# Altium footprint library THS4509.PcbLib: 2 footprints
Each footprint in its own frame and in the unit in brackets; x right, y up, seen from the top. Pads: shape width x height; smd on the part's side, far side on the other; paste and mask are expansions set on the pad; w line width, h text height; cw(c..) or ccw(c..) is an arc to the next point about the centre after c.
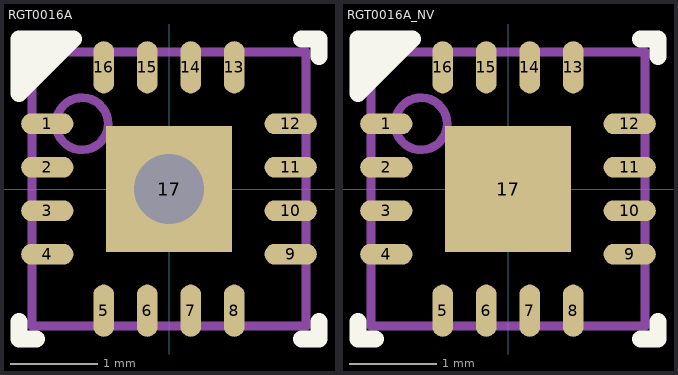
[diagram p0: the footprints below, top view; thin cyan lines are the x and y axes]

## RGT0016A [mm]
pads (17):
  oval 0.6x0.24 smd paste-0.102 mask+0.051: 1(-1.4,0.75) 2(-1.4,0.25) 3(-1.4,-0.25) 4(-1.4,-0.75) 9(1.4,-0.75) 10(1.4,-0.25) 11(1.4,0.25) 12(1.4,0.75)
  oval 0.24x0.6 smd paste-0.102 mask+0.051: 5(-0.75,-1.4) 6(-0.25,-1.4) 7(0.25,-1.4) 8(0.75,-1.4) 13(0.75,1.4) 14(0.25,1.4) 15(-0.25,1.4) 16(-0.75,1.4)
  rect 1.45x1.45 smd paste-0.712 mask+0.051: 17(0,0)
via 0,0 diameter 1.2 hole 0.8
Top Overlay:
  region: -1.1,1.725 -1.725,1.725 -1.725,1.1
  lines w0.2: -1.725,-1.525 -1.725,-1.725 -1.525,-1.725 ; 1.525,-1.725 1.725,-1.725 1.725,-1.525 ; 1.525,1.725 1.725,1.725 1.725,1.525 ; -1.1,1.725 -1.725,1.725 -1.725,1.1 -1.1,1.725 ; -1.1,1.725 -1.1,1.725
Top Paste:
  region: -0.668,0.669 -0.668,-0.669 0.669,-0.669 0.669,0.669
Mechanical 13:
  circle w0.1: c-1,0.75 r0.3
  lines w0.1: -1.575,-1.575 1.575,-1.575 1.575,1.575 -1.575,1.575 -1.575,-1.575
3D body "RGT0016A.stp": height 1, standoff 0, extent -1.5,-1.5 1.5,1.5

## RGT0016A_NV [mm]
pads (17):
  oval 0.6x0.24 smd paste-0.102 mask+0.051: 1(-1.4,0.75) 2(-1.4,0.25) 3(-1.4,-0.25) 4(-1.4,-0.75) 9(1.4,-0.75) 10(1.4,-0.25) 11(1.4,0.25) 12(1.4,0.75)
  oval 0.24x0.6 smd paste-0.102 mask+0.051: 5(-0.75,-1.4) 6(-0.25,-1.4) 7(0.25,-1.4) 8(0.75,-1.4) 13(0.75,1.4) 14(0.25,1.4) 15(-0.25,1.4) 16(-0.75,1.4)
  rect 1.45x1.45 smd paste-0.712 mask+0.051: 17(0,0)
Top Overlay:
  region: -1.725,1.725 -1.1,1.725 -1.725,1.1
  lines w0.2: -1.725,-1.525 -1.725,-1.725 -1.525,-1.725 ; 1.525,-1.725 1.725,-1.725 1.725,-1.525 ; 1.525,1.725 1.725,1.725 1.725,1.525 ; -1.1,1.725 -1.725,1.725 -1.725,1.1 -1.1,1.725 ; -1.1,1.725 -1.1,1.725
Top Paste:
  region: -0.668,0.669 -0.668,-0.669 0.669,-0.669 0.669,0.669
Mechanical 13:
  circle w0.1: c-1,0.75 r0.3
  lines w0.1: -1.575,-1.575 -1.575,1.575 1.575,1.575 1.575,-1.575 -1.575,-1.575
3D body "RGT0016A.stp": height 1, standoff 0, extent -1.5,-1.5 1.5,1.5